# Altium integrated library SENSOR-PRESSURE-BMP085_PLCC8_.IntLib: 1 symbol
Pins are listed as number, name and electrical type; pins without a type are passive.

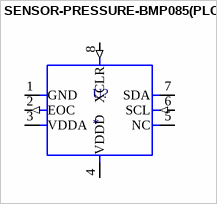
[diagram p0: symbol SENSOR-PRESSURE-BMP085(PLCC8)]

## SENSOR-PRESSURE-BMP085(PLCC8)
designator U?
Pressure Sensor 4.35PSI ~ 15.95PSI (30kPa ~ 110kPa) Absolute 16 ~ 19 b 8-CLCC; MF: Bosch; MP: BMP085; Check_prices: https://www.snapeda.com/parts/BMP085/Bosch%20Sensortec/view-part/44086/?ref=eda; Value: *; Price: None; Availability: Bad; Package: CLCC-8 Bosch; SnapEDA_Link: https://www.snapeda.com/parts/BMP085/Bosch%20Sensortec/view-part/44086/?ref=snap
footprint LCC8-1.27-5.0X5.0MM
pins: 1 GND (power), 2 EOC (out), 3 VDDA (power), 4 VDDD (power), 5 NC, 6 SCL (in), 7 SDA (io), 8 XCLR (in)